# EAGLE library part MPT0.5/8-2.54 (library cpu)
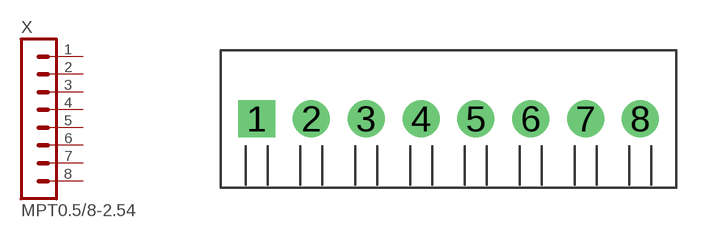
[diagram p6: symbol with the pads of OMAT_IC_2_MPT0.5/8-2.54; footprint OMAT_IC_2_MPT0.5/8-2.54]

Designator prefix X

## MPT0.5/8-2.54  [OMAT_IC_2_MPT0.5/8-2.54]
1  1  pas
2  2  pas
3  3  pas
4  4  pas
5  5  pas
6  6  pas
7  7  pas
8  8  pas

## Footprint OMAT_IC_2_MPT0.5/8-2.54 (pad centres in mm)
drill 1.143 square: 1 0,0
drill 1.143: 2 2.54,0; 3 5.08,0; 4 7.62,0; 5 10.16,0; 6 12.7,0; 7 15.24,0; 8 17.78,0